# EAGLE library part IF_USB_HUB_USB2517I-JZX (library !GPLIB_ACTIVE)
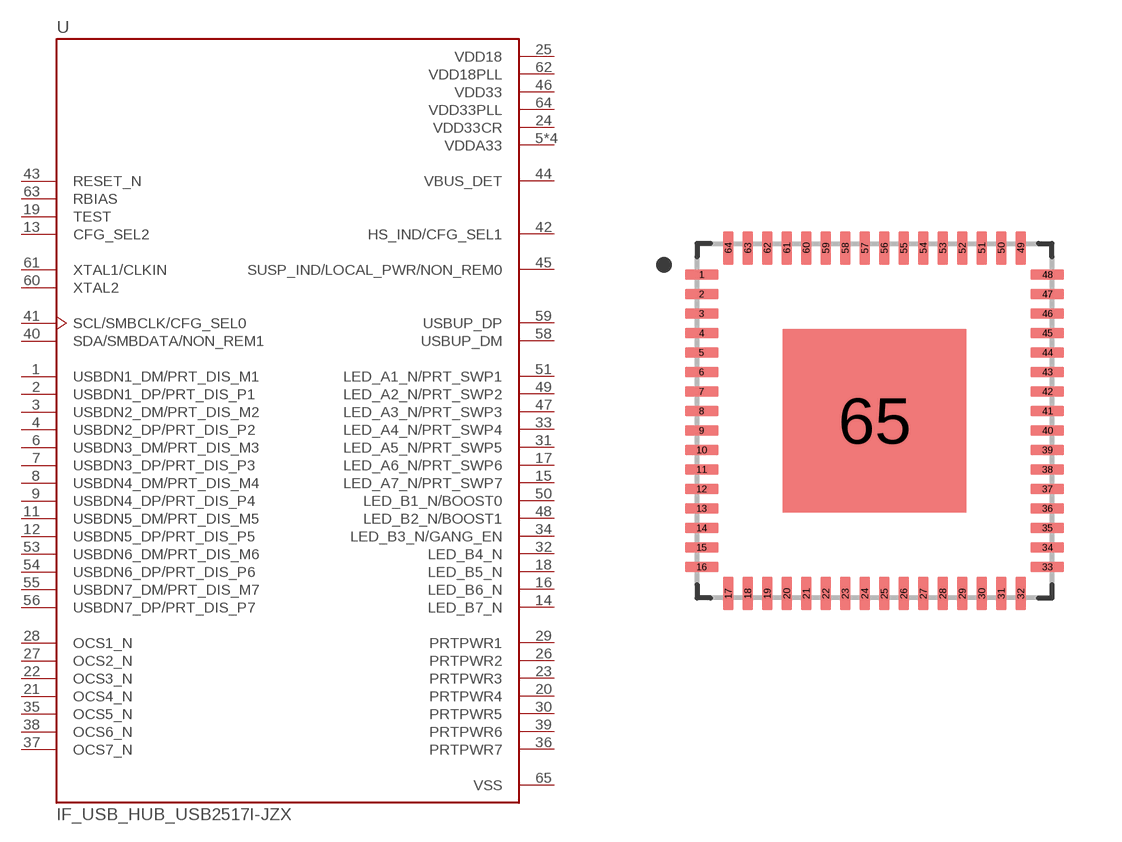
[diagram p75: symbol with the pads of QFN50P900X900X100-65N; footprint QFN50P900X900X100-65N]

Designator prefix U

## IF_USB_HUB_USB2517I-JZX  [QFN50P900X900X100-65N]
1  USBDN1_DM/PRT_DIS_M1
2  USBDN1_DP/PRT_DIS_P1
3  USBDN2_DM/PRT_DIS_M2
4  USBDN2_DP/PRT_DIS_P2
5  VDDA33  pwr
6  USBDN3_DM/PRT_DIS_M3
7  USBDN3_DP/PRT_DIS_P3
8  USBDN4_DM/PRT_DIS_M4
9  USBDN4_DP/PRT_DIS_P4
10  VDDA33  pwr
11  USBDN5_DM/PRT_DIS_M5
12  USBDN5_DP/PRT_DIS_P5
13  CFG_SEL2  in
14  LED_B7_N
15  LED_A7_N/PRT_SWP7
16  LED_B6_N
17  LED_A6_N/PRT_SWP6
18  LED_B5_N
19  TEST  in
20  PRTPWR4  out
21  OCS4_N  in
22  OCS3_N  in
23  PRTPWR3  out
24  VDD33CR  pwr
25  VDD18  pwr
26  PRTPWR2  out
27  OCS2_N  in
28  OCS1_N  in
29  PRTPWR1  out
30  PRTPWR5  out
31  LED_A5_N/PRT_SWP5
32  LED_B4_N
33  LED_A4_N/PRT_SWP4
34  LED_B3_N/GANG_EN
35  OCS5_N  in
36  PRTPWR7  out
37  OCS7_N  in
38  OCS6_N  in
39  PRTPWR6  out
40  SDA/SMBDATA/NON_REM1
41  SCL/SMBCLK/CFG_SEL0
42  HS_IND/CFG_SEL1
43  RESET_N  in
44  VBUS_DET
45  SUSP_IND/LOCAL_PWR/NON_REM0
46  VDD33  pwr
47  LED_A3_N/PRT_SWP3
48  LED_B2_N/BOOST1
49  LED_A2_N/PRT_SWP2
50  LED_B1_N/BOOST0
51  LED_A1_N/PRT_SWP1
52  VDDA33  pwr
53  USBDN6_DM/PRT_DIS_M6
54  USBDN6_DP/PRT_DIS_P6
55  USBDN7_DM/PRT_DIS_M7
56  USBDN7_DP/PRT_DIS_P7
57  VDDA33  pwr
58  USBUP_DM
59  USBUP_DP
60  XTAL2  out
61  XTAL1/CLKIN  in
62  VDD18PLL  pwr
63  RBIAS  in
64  VDD33PLL  pwr
65  VSS  pwr

## Footprint QFN50P900X900X100-65N (pad centres in mm)
smd 0.86 x 0.26: 1 -4.435,3.75; 2 -4.435,3.25; 3 -4.435,2.75; 4 -4.435,2.25; 5 -4.435,1.75; 6 -4.435,1.25; 7 -4.435,0.75; 8 -4.435,0.25; 9 -4.435,-0.25; 10 -4.435,-0.75; 11 -4.435,-1.25; 12 -4.435,-1.75; 13 -4.435,-2.25; 14 -4.435,-2.75; 15 -4.435,-3.25; 16 -4.435,-3.75; 33 4.435,-3.75; 34 4.435,-3.25; 35 4.435,-2.75; 36 4.435,-2.25; 37 4.435,-1.75; 38 4.435,-1.25; 39 4.435,-0.75; 40 4.435,-0.25; 41 4.435,0.25; 42 4.435,0.75; 43 4.435,1.25; 44 4.435,1.75; 45 4.435,2.25; 46 4.435,2.75; 47 4.435,3.25; 48 4.435,3.75
smd 0.26 x 0.86: 17 -3.75,-4.435; 18 -3.25,-4.435; 19 -2.75,-4.435; 20 -2.25,-4.435; 21 -1.75,-4.435; 22 -1.25,-4.435; 23 -0.75,-4.435; 24 -0.25,-4.435; 25 0.25,-4.435; 26 0.75,-4.435; 27 1.25,-4.435; 28 1.75,-4.435; 29 2.25,-4.435; 30 2.75,-4.435; 31 3.25,-4.435; 32 3.75,-4.435; 49 3.75,4.435; 50 3.25,4.435; 51 2.75,4.435; 52 2.25,4.435; 53 1.75,4.435; 54 1.25,4.435; 55 0.75,4.435; 56 0.25,4.435; 57 -0.25,4.435; 58 -0.75,4.435; 59 -1.25,4.435; 60 -1.75,4.435; 61 -2.25,4.435; 62 -2.75,4.435; 63 -3.25,4.435; 64 -3.75,4.435
smd 4.7 x 4.7: 65 0,0